# EAGLE library part PCM4201 (library ICs)
Low Power, 24-Bit, Single Channel Audio Analog-to-Digital Converter
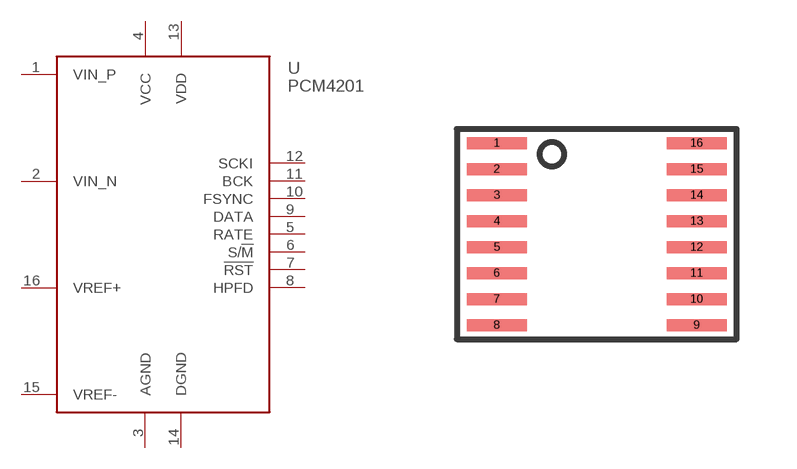
[diagram p137: symbol with the pads of SSOP16-4.5MM; footprint SSOP16-4.5MM]

Designator prefix U

## PCM4201 (FARNELL: 1754966; PRICE_PER: 4.71; VALUE: PCM4201)  [SSOP16-4.5MM]
1  VIN_P
2  VIN_N
3  AGND
4  VCC
5  RATE
6  S/!M
7  !RST
8  HPFD
9  DATA
10  FSYNC
11  BCK
12  SCKI
13  VDD
14  DGND
15  VREF-
16  VREF+

## Footprint SSOP16-4.5MM (pad centres in mm)
smd 1.5 x 0.3: 1 -2.5,2.275; 2 -2.5,1.625; 3 -2.5,0.975; 4 -2.5,0.325; 5 -2.5,-0.325; 6 -2.5,-0.975; 7 -2.5,-1.625; 8 -2.5,-2.275; 9 2.5,-2.275; 10 2.5,-1.625; 11 2.5,-0.975; 12 2.5,-0.325; 13 2.5,0.325; 14 2.5,0.975; 15 2.5,1.625; 16 2.5,2.275